# EAGLE library part LT1413 (library eric-custom)
Single Supply, Dual Precision Op Amp
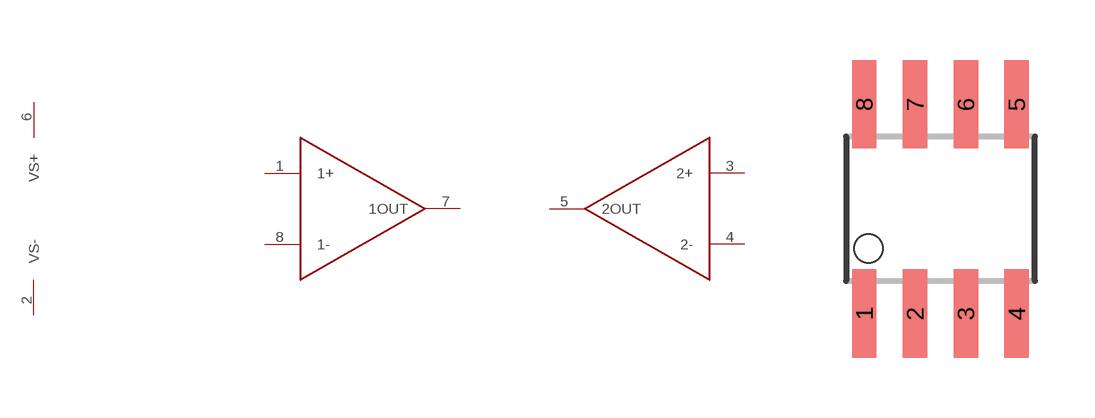
[diagram p9: symbol with the pads of SO08; footprint SO08]

Designator prefix -

## LT1413  [SO08]
1  1+
2  VS-
3  2+
4  2-
5  2OUT
6  VS+
7  1OUT
8  1-

## Footprint SO08 (pad centres in mm)
Small Outline Package
smd 0.61 x 2.21: 1 -1.905,-2.616; 2 -0.635,-2.616; 3 0.635,-2.616; 4 1.905,-2.616; 5 1.905,2.616; 6 0.635,2.616; 7 -0.635,2.616; 8 -1.905,2.616